# Altium footprint library TE_FSMRAXXX.PcbLib: 1 footprints
Each footprint in its own frame and in the unit in brackets; x right, y up, seen from the top. Pads: shape width x height; smd on the part's side, far side on the other; paste and mask are expansions set on the pad; w line width, h text height; cw(c..) or ccw(c..) is an arc to the next point about the centre after c.
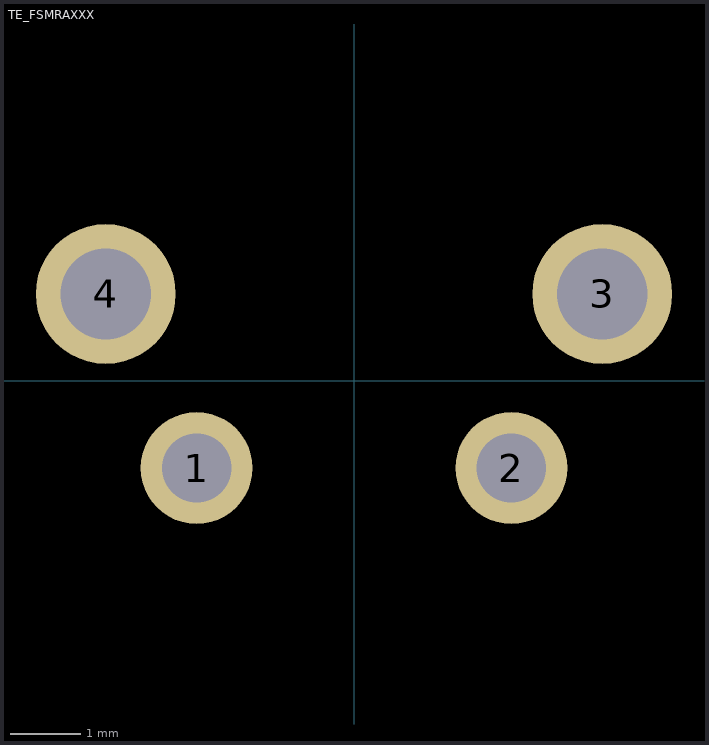
[diagram p0: the footprint, top view; thin cyan lines are the x and y axes]

## TE_FSMRAXXX [mm]
pads (4):
  round 1.6 hole 0.99: 1(-2.25,-1.245) 2(2.25,-1.245)
  round 2 hole 1.3: 3(3.55,1.245) 4(-3.55,1.245)
3D body: height 7, standoff -3.52, extent -4.204,-13.056 4.204,2.807